# EAGLE library part INA21X (library piccoli)
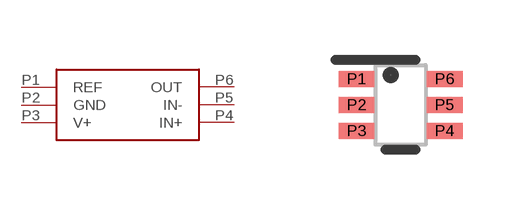
[diagram p17: symbol with the pads of SC70; footprint SC70]

Designator prefix U

## INA21X  [SC70]
P1  REF  in
P2  GND  pwr
P3  V+  pwr
P4  IN+  in
P5  IN-  in
P6  OUT  out

## Footprint SC70 (pad centres in mm)
smd 0.9 x 0.4: P1 -1.1,0.65; P2 -1.1,0; P3 -1.1,-0.65; P4 1.1,-0.65; P5 1.1,0; P6 1.1,0.65